# EAGLE library part 1-794681-4 (library con-hirose-dxlm)
Micro MATE-N-LOK Connectors grid 1.5mm Dual Row Through Hole Vertical Metal Through Hole Holddowns Source: ENG_CD_794681_E.pdf
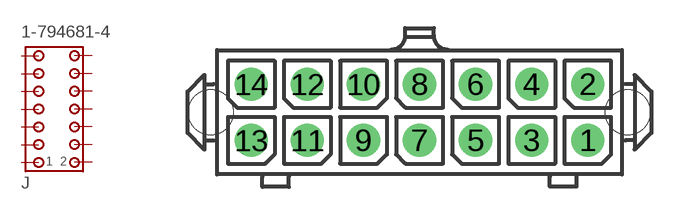
[diagram p156: symbol with the pads of 1-794681-4; footprint 1-794681-4]

Designator prefix J

## 1-794681-4  [1-794681-4]
1  1  pas
2  2  pas
3  3  pas
4  4  pas
5  5  pas
6  6  pas
7  7  pas
8  8  pas
9  9  pas
10  10  pas
11  11  pas
12  12  pas
13  13  pas
14  14  pas

## Footprint 1-794681-4 (pad centres in mm)
Micro MATE-N-LOK Connectors grid 1.5mm Dual Row Through Hole Vertical Metal Through Hole Holddowns Source: ENG_CD_794681_E.pdf
drill 1 pad 1.778: 1 9,-1.5; 2 9,1.5; 3 6,-1.5; 4 6,1.5; 5 3,-1.5; 6 3,1.5; 7 0,-1.5; 8 0,1.5; 9 -3,-1.5; 10 -3,1.5; 11 -6,-1.5; 12 -6,1.5; 13 -9,-1.5; 14 -9,1.5
hole 2.4 at 11.13,0
hole 2.4 at -11.17,0